# EAGLE library part MC_CLICK_MIKROE (library lieBtrau)
Mikroelektronika Click board <http://www.mikroe.com/click/>
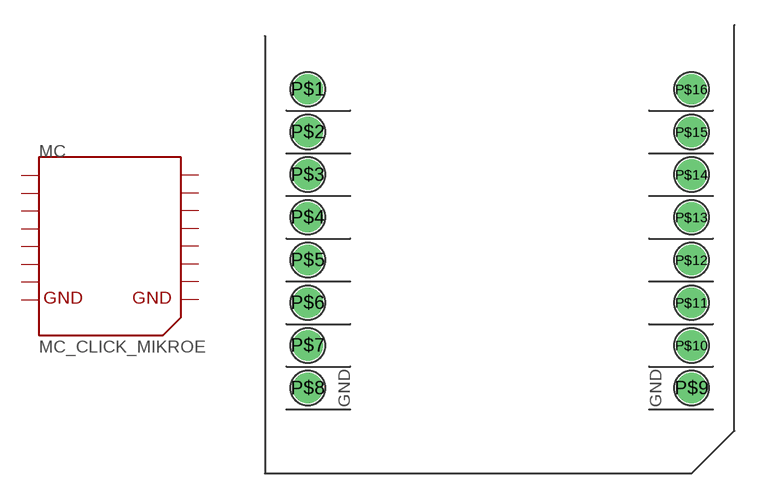
[diagram p6: symbol with the pads of MC_CLICK_MIKROE; footprint MC_CLICK_MIKROE]

Designator prefix MC

## MC_CLICK_MIKROE (3V3: 3V3; 5V: 5V; AN: AN; CS: CS; INT: INT; MISO: MISO; MOSI: MOSI; PWM: PWM; RST: RST; RX: RX; SCK: SCK; SCL: SCL; SDA: SDA; TX: TX)  [MC_CLICK_MIKROE]
P$1  P$1
P$2  P$2
P$3  P$3
P$4  P$4
P$5  P$5
P$6  P$6
P$7  P$7
P$8  8
P$9  P$9
P$10  P$10
P$11  P$11
P$12  P$12
P$13  P$13
P$14  P$14
P$15  P$15
P$16  P$16

## Footprint MC_CLICK_MIKROE (pad centres in mm)
drill 1.1 pad 1.8: P$1 -11.43,17.78; P$2 -11.43,15.24; P$3 -11.43,12.7; P$4 -11.43,10.16; P$5 -11.43,7.62; P$6 -11.43,5.08; P$7 -11.43,2.54; P$8 -11.43,0; P$9 11.43,0; P$10 11.43,2.54; P$11 11.43,5.08; P$12 11.43,7.62; P$13 11.43,10.16; P$14 11.43,12.7; P$15 11.43,15.24; P$16 11.43,17.78